# EAGLE library part ATTINY25/45/85 (library Transistorlabs)
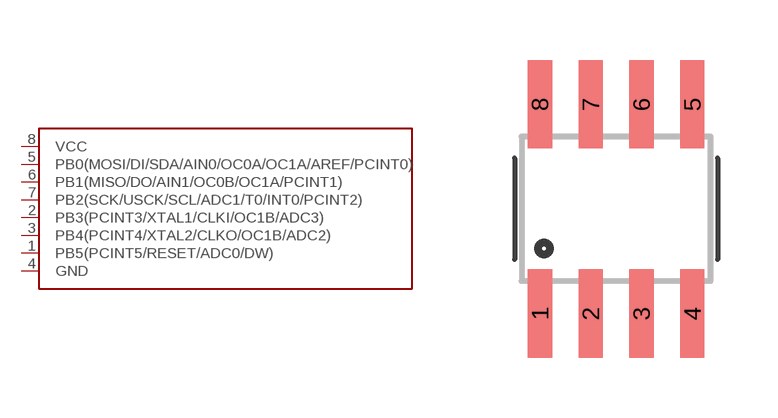
[diagram p0: symbol with the pads of SOIC8; footprint SOIC8]

Designator prefix -

## ATTINY25/45/85  [SOIC8]
1  PB5(PCINT5/RESET/ADC0/DW)
2  PB3(PCINT3/XTAL1/CLKI/OC1B/ADC3)
3  PB4(PCINT4/XTAL2/CLKO/OC1B/ADC2)
4  GND  pwr
5  PB0(MOSI/DI/SDA/AIN0/OC0A/OC1A/AREF/PCINT0)
6  PB1(MISO/DO/AIN1/OC0B/OC1A/PCINT1)
7  PB2(SCK/USCK/SCL/ADC1/T0/INT0/PCINT2)
8  VCC  pwr

## Footprint SOIC8 (pad centres in mm)
smd 0.61 x 2.21: 1 0.635,-2.616; 2 1.905,-2.616; 3 3.175,-2.616; 4 4.445,-2.616; 5 4.445,2.616; 6 3.175,2.616; 7 1.905,2.616; 8 0.635,2.616